# Altium integrated library WS-TASU_rev16a.intlib: 9 symbols
Pins are listed as number, name and electrical type; pins without a type are passive.

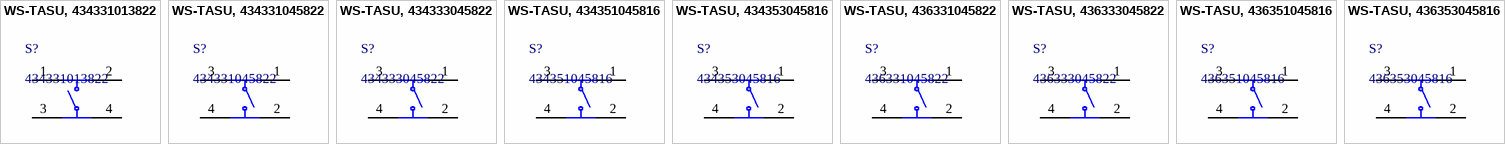
[diagram p0: symbols WS-TASU, 434331013822 to WS-TASU, 436353045816]

## WS-TASU, 434331013822
designator S?, comment 434331013822
WS-TASU 3.5x2.9 mm SMD side push; Manufacturer: Wurth Elektronik; partNo: 434331013822; ComponentLink1Description: Manufacturer; ComponentLink1URL: http://www.we-online.de; Created by: Baojun Chen; Created Date: Dec.2015; ComponentLink2Description: Datasheet; ComponentLink2URL: http://katalog.we-online.de/em/datasheet/434331013822.pdf
footprint 434331013822 (WS-TASU 3.5x2.9 mm SMD side push)
pins: 1, 2, 3, 4

## WS-TASU, 434331045822
designator S?, comment 434331045822
WS-TASU 3.5x4.7 mm SMD side push; Manufacturer: Wurth Elektronik; partNo: 434331045822; ComponentLink1Description: Manufacturer; ComponentLink1URL: http://www.we-online.de; Created by: Baojun Chen; Created Date: Dec.2015; ComponentLink2Description: Datasheet; ComponentLink2URL: http://katalog.we-online.de/em/datasheet/4343x10458xx.pdf
footprint 434331045822 (4.7*3.5mm side push type,SMD, height 1.65mm, black actuator, 220gf, T&R)
pins: 1, 2, 3, 4

## WS-TASU, 434333045822
designator S?, comment 434333045822
WS-TASU 3.5x4.7 mm SMD J-Bend side push; Manufacturer: Wurth Elektronik; partNo: 434333045822; ComponentLink1Description: Manufacturer; ComponentLink1URL: http://www.we-online.de; Created by: Baojun Chen; Created Date: Dec.2015; ComponentLink2Description: Datasheet; ComponentLink2URL: http://katalog.we-online.de/em/datasheet/4343x30458xx.pdf
footprint 434333045822 (4.7*3.5mm side push type,J-Bend SMD, height 1.65mm, black actuator, 220gf, T&R)
pins: 1, 2, 3, 4

## WS-TASU, 434351045816
designator S?, comment 434351045816
WS-TASU 3.5x4.7 mm SMD side push; Manufacturer: Wurth Elektronik; partNo: 434351045816; ComponentLink1Description: Manufacturer; ComponentLink1URL: http://www.we-online.de; Created by: Baojun Chen; Created Date: Dec.2015; ComponentLink2Description: Datasheet; ComponentLink2URL: http://katalog.we-online.de/em/datasheet/4343x10458xx.pdf
footprint 434331045822 (4.7*3.5mm side push type,SMD, height 1.65mm, black actuator, 220gf, T&R)
pins: 1, 2, 3, 4

## WS-TASU, 434353045816
designator S?, comment 434353045816
WS-TASU 3.5x4.7 mm SMD J-Bend side push; Manufacturer: Wurth Elektronik; partNo: 434353045816; ComponentLink1Description: Manufacturer; ComponentLink1URL: http://www.we-online.de; Created by: Baojun Chen; Created Date: Dec.2015; ComponentLink2Description: Datasheet; ComponentLink2URL: http://katalog.we-online.de/em/datasheet/4343x30458xx.pdf
footprint 434353045816 (4.7*3.5mm side push type, J-Bend SMD, height 1.65mm, white actuator, 160gf, T&R)
pins: 1, 2, 3, 4

## WS-TASU, 436331045822
designator S?, comment 436331045822
WS-TASU 3.5x4.7 mm SMD side push, boss design; Manufacturer: Wurth Elektronik; partNo: 436331045822; ComponentLink1Description: Manufacturer; ComponentLink1URL: http://www.we-online.de; Created by: Baojun Chen; Created Date: Dec.2015; ComponentLink2Description: Datasheet; ComponentLink2URL: http://katalog.we-online.de/em/datasheet/4363x10458xx.pdf
footprint 436331045822 (4.7*3.5mm, side push type, SMD, with boss design, height 1.65mm, black actuator , 220gf, T&R)
pins: 1, 2, 3, 4

## WS-TASU, 436333045822
designator S?, comment 436333045822
WS-TASU 3.5x4.7 mm SMD J-Bend side push, boss design; Manufacturer: Wurth Elektronik; partNo: 436333045822; ComponentLink1Description: Manufacturer; ComponentLink1URL: http://www.we-online.de; Created by: Baojun Chen; Created Date: Dec.2015; ComponentLink2Description: Datasheet; ComponentLink2URL: http://katalog.we-online.de/em/datasheet/4363x30458xx.pdf
footprint 436333045822 (4.7*3.5mm side push type, J-Bend SMD with boss design, height 1.65mm, black actuator, 220gf, T&R)
pins: 1, 2, 3, 4

## WS-TASU, 436351045816
designator S?, comment 436351045816
WS-TASU 3.5x4.7 mm SMD side push, boss design; Manufacturer: Wurth Elektronik; partNo: 436351045816; ComponentLink1Description: Manufacturer; ComponentLink1URL: http://www.we-online.de; Created by: Baojun Chen; Created Date: Dec.2015; ComponentLink2Description: Datasheet; ComponentLink2URL: http://katalog.we-online.de/em/datasheet/4363x10458xx.pdf
footprint 436351045816 (4.7*3.5mm side push type, SMD with boss design,  height 1.65mm, white actuator, 160gf, T&R)
pins: 1, 2, 3, 4

## WS-TASU, 436353045816
designator S?, comment 436353045816
WS-TASU 3.5x4.7 mm SMD J-Bend side push, boss design; Manufacturer: Wurth Elektronik; partNo: 436353045816; ComponentLink1Description: Manufacturer; ComponentLink1URL: http://www.we-online.de; Created by: Baojun Chen; Created Date: Dec.2015; ComponentLink2Description: Datasheet; ComponentLink2URL: http://katalog.we-online.de/em/datasheet/4363x30458xx.pdf
footprint 436353045816 (4.7*3.5mm side push type, J-Bend SMD with boss design,  height 1.65mm, white actuator, 160gf, T&R)
pins: 1, 2, 3, 4